# Altium footprint library F55.PcbLib: 1 footprints
Each footprint in its own frame and in the unit in brackets; x right, y up, seen from the top. Pads: shape width x height; smd on the part's side, far side on the other; paste and mask are expansions set on the pad; w line width, h text height; cw(c..) or ccw(c..) is an arc to the next point about the centre after c.
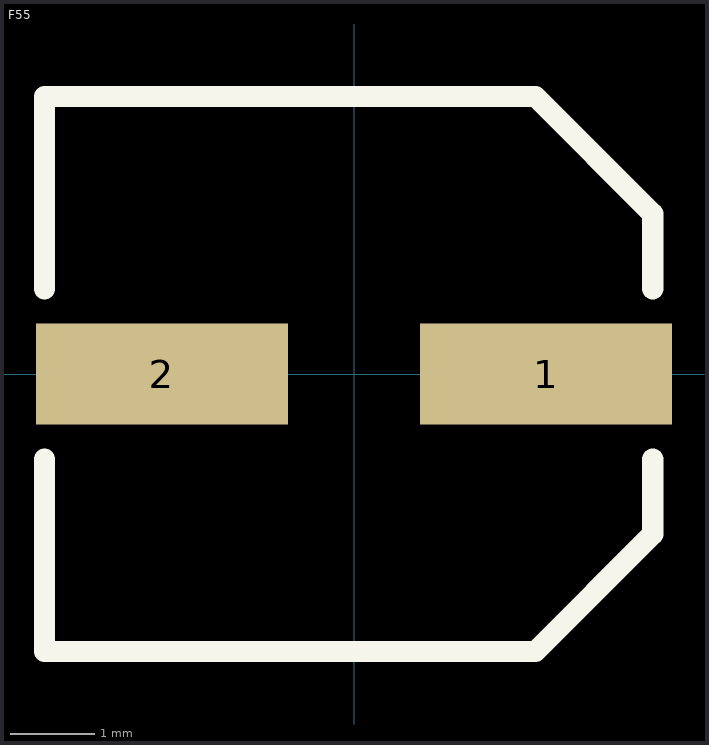
[diagram p0: the footprint, top view; thin cyan lines are the x and y axes]

## F55 [mm]
height 5.2
pads (2):
  rect 3x1.2 smd: 1(2.286,0) 2(-2.286,0)
Top Overlay:
  lines w0.254: -3.683,-1.016 -3.683,-3.302 2.159,-3.302 3.556,-1.905 3.556,-1.016 ; -3.683,1.016 -3.683,3.302 2.159,3.302 3.556,1.905 3.556,1.016